# EAGLE library part MICROSD_CARD (library SpatMuy2022)
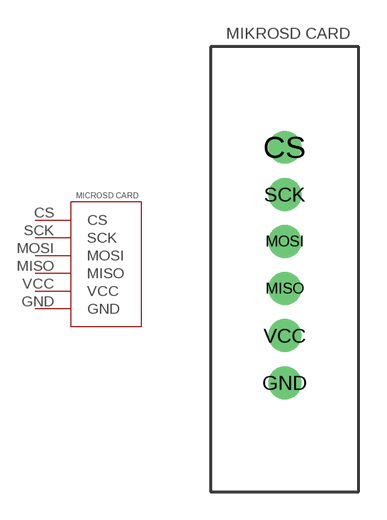
[diagram p2: symbol with the pads of MICROSD_CARD; footprint MICROSD_CARD]

Designator prefix -

## MICROSD_CARD  [MICROSD_CARD]
CS  CS
GND  GND
MISO  MISO
MOSI  MOSI
SCK  SCK
VCC  VCC

## Footprint MICROSD_CARD (pad centres in mm)
drill 0.9 pad 1.778: CS 0,5.08; GND 0,-7.62; MISO 0,-2.54; MOSI 0,0; SCK 0,2.54; VCC 0,-5.08